# EAGLE library part SCL3300 (library ICs)
3-axis inclinometer with angle output and digital SPI interface
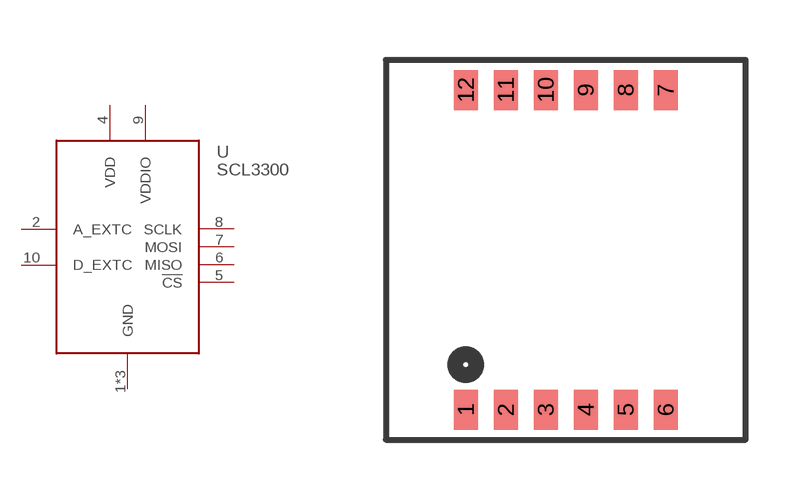
[diagram p219: symbol with the pads of SCL3300; footprint SCL3300]

Designator prefix U

## SCL3300 (DIGIKEY: 490-18218-1-ND; HEIGHT: 3.5; PRICE_PER: 30.14; VALUE: SCL3300)  [SCL3300]
1  GND
2  A_EXTC
4  VDD
5  !CS
6  MISO
7  MOSI
8  SCLK
9  VDDIO
10  D_EXTC
11  GND
12  GND

## Footprint SCL3300 (pad centres in mm)
smd 0.6 x 1: 1 -2.5,-4; 2 -1.5,-4; 3 -0.5,-4; 4 0.5,-4; 5 1.5,-4; 6 2.5,-4; 7 2.5,4; 8 1.5,4; 9 0.5,4; 10 -0.5,4; 11 -1.5,4; 12 -2.5,4